# EAGLE library part ADC128S022CIMTX (library ds_ic_peripherals)
ADC128S022 8-Channel, 50 kSPS to 200 kSPS, 12-Bit A/D Converter
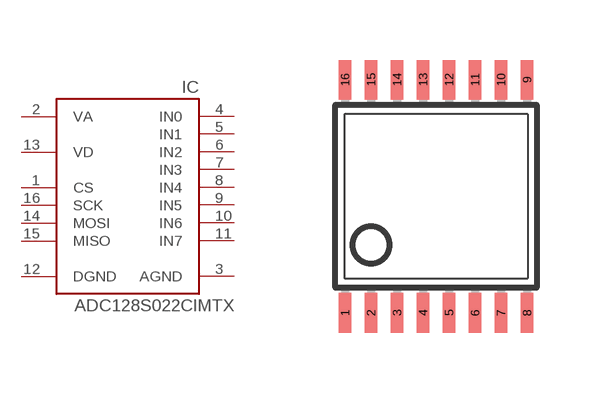
[diagram p2: symbol with the pads of TSSOP16; footprint TSSOP16]

Designator prefix IC

## ADC128S022CIMTX/NOPB (DATASHEET: ti.com/general/docs/suppproductinfo.tsp?distId=10&gotoUrl=http%253A%252F%252Fwww.ti.com%252Flit%252Fgpn%252Fadc128s022; DESCRIPTION: -40℃~+105℃ 12 1LSB 2.7V~5.25V 50kHz 50kHz~3.2MHz 73dB 8 No SAR SPI TSSOP-16 Analog to Digital Converters (ADC) ROHS; HQ_PART: IC0103094; LCSC_PART: C180424; MANUFACTURER: Texas Instruments; MPN: ADC128S022CIMTX/NOPB; ROHS: YES; VALUE: ADC128S022CIMTX)  [TSSOP16]
1  CS
2  VA  pwr
3  AGND  pwr
4  IN0  in
5  IN1  in
6  IN2  in
7  IN3  in
8  IN4  in
9  IN5  in
10  IN6  in
11  IN7  in
12  DGND  pwr
13  VD  pwr
14  MOSI
15  MISO
16  SCK

## Footprint TSSOP16 (pad centres in mm)
Thin Shrink Small Outline Plastic 16 MAX3223-MAX3243.pdf
smd 0.305 x 0.991: 1 -2.275,-2.918; 2 -1.625,-2.918; 3 -0.975,-2.918; 4 -0.325,-2.918; 5 0.325,-2.918; 6 0.975,-2.918; 7 1.625,-2.918; 8 2.275,-2.918; 9 2.275,2.918; 10 1.625,2.918; 11 0.975,2.918; 12 0.325,2.918; 13 -0.325,2.918; 14 -0.975,2.918; 15 -1.625,2.918; 16 -2.275,2.918